# EAGLE library part AP1509-50SG-13 (library 5v reg)
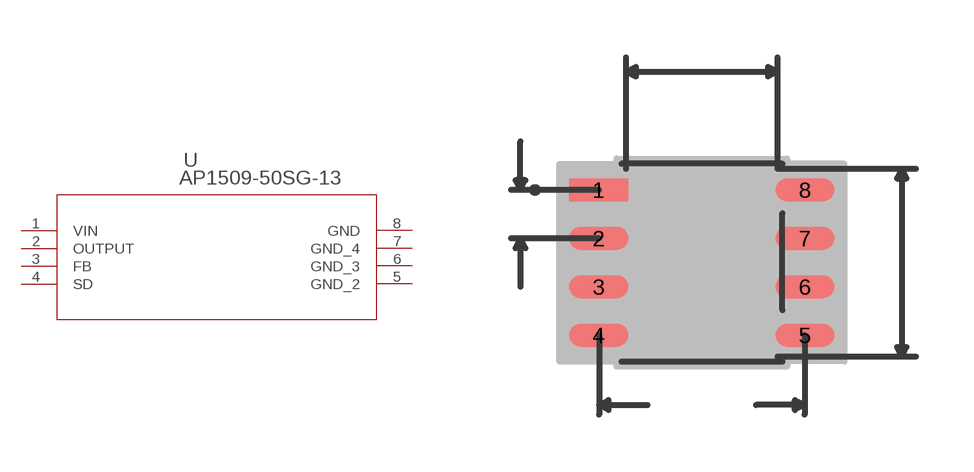
[diagram p0: symbol with the pads of SOP-8L; footprint SOP-8L]

Designator prefix U

## AP1509-50SG-13 (MANUFACTURER_PART_NUMBER: AP150950SG13; VENDOR: Diodes Inc)  [SOP-8L]
1  VIN  in
2  OUTPUT  out
3  FB  out
4  SD  pas
5  GND_2  pwr
6  GND_3  pwr
7  GND_4  pwr
8  GND  pwr

## Footprint SOP-8L (pad centres in mm)
smd 1.55 x 0.6: 1 -2.7,1.905; 2 -2.7,0.635; 3 -2.7,-0.635; 4 -2.7,-1.905; 5 2.7,-1.905; 6 2.7,-0.635; 7 2.7,0.635; 8 2.7,1.905